# Altium footprint library transistors_other.PcbLib: 4 footprints
Each footprint in its own frame and in the unit in brackets; x right, y up, seen from the top. Pads: shape width x height; smd on the part's side, far side on the other; paste and mask are expansions set on the pad; w line width, h text height; cw(c..) or ccw(c..) is an arc to the next point about the centre after c.
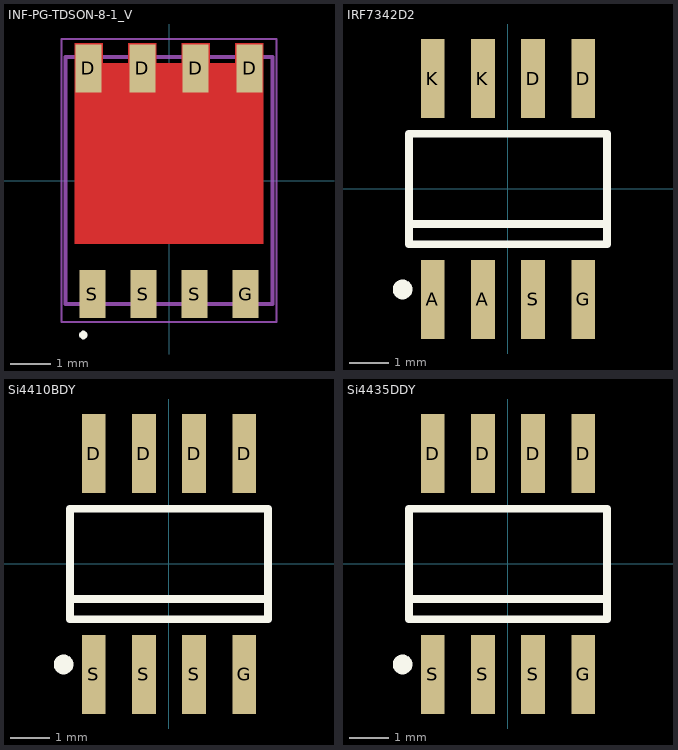
[diagram p0: the footprints below, top view; thin cyan lines are the x and y axes]

## INF-PG-TDSON-8-1_V [mm] "TDSON, 8-Leads, Body 6.15x5.15mm, Pitch 1.27mm"
height 1
pads (8):
  rect 0.65x1.2 smd: D(-2.007,2.794) D(-0.66,2.794) D(0.66,2.794) D(2.007,2.794) G(1.905,-2.825) S(-1.905,-2.825) S(-0.635,-2.825) S(0.635,-2.825)
Top Layer:
  region: -2.35,2.925 -2.35,-1.575 2.35,-1.575 2.35,2.925
  region: -2.35,2.925 -1.65,2.925 -1.65,3.425 -2.35,3.425
  region: 1.65,2.925 2.35,2.925 2.35,3.425 1.65,3.425
  region: -1.015,2.925 -0.315,2.925 -0.315,3.425 -1.015,3.425
  region: 0.315,2.925 1.015,2.925 1.015,3.425 0.315,3.425
Top Overlay:
  region: -2.234,-3.842 -2.234,-3.862 -2.218,-3.899 -2.19,-3.927 -2.153,-3.942 -2.134,-3.942 -2.114,-3.942 -2.077,-3.927 -2.049,-3.899 -2.034,-3.862 -2.034,-3.842 -2.034,-3.822 -2.049,-3.785 -2.077,-3.757 -2.114,-3.742 -2.134,-3.742 -2.153,-3.742 -2.19,-3.757 -2.218,-3.785 -2.234,-3.822
Top Paste:
  rectangle: 0.254,0.381 1.778,1.905
  rectangle: 0.254,-1.397 1.778,0.127
  rectangle: -1.778,-1.397 -0.254,0.127
  rectangle: -1.778,0.381 -0.254,1.905
Mechanical 13:
  lines w0.1: -2.575,-3.075 -2.575,3.075 2.575,3.075 2.575,-3.075 -2.575,-3.075
Mechanical 15:
  lines w0.05: -2.675,-3.525 -2.675,3.525 2.675,3.525 2.675,-3.525 -2.675,-3.525
  lines w0.1: -0.5,0 0.5,0 ; 0,-0.5 0,0.5
3D body "User Library-TDSON-8 (INFIN).step": height 1.1, standoff -0.01, extent -2.795,-3.167 2.795,3.183

## IRF7342D2 [mm] "Small Outline; 8 Leads; Body Width 3.7 mm; Pitch 1.27 mm"
height 1.65
pads (8):
  rect 0.6x2 smd: A(-1.905,-2.794) A(-0.635,-2.794) D(0.635,2.794) D(1.905,2.794) G(1.905,-2.794) K(-1.905,2.794) K(-0.635,2.794) S(0.635,-2.794)
Top Overlay:
  circle w0.25: c-2.665,-2.54 r0.125
  lines w0.2: -2.5,-0.881 2.5,-0.881 ; -2.5,-1.397 2.5,-1.397 2.5,1.397 -2.5,1.397 -2.5,-1.397
3D body "SW3dPS-SOIC08-150.step": height 1.75, standoff 0, extent -2.4,-2.9 2.4,2.9

## Si4410BDY [mm] "Small Outline; 8 Leads; Body Width 3.7 mm; Pitch 1.27 mm"
height 1.65
pads (8):
  rect 0.6x2 smd: D(-1.905,2.794) D(-0.635,2.794) D(0.635,2.794) D(1.905,2.794) G(1.905,-2.794) S(-1.905,-2.794) S(-0.635,-2.794) S(0.635,-2.794)
Top Overlay:
  circle w0.25: c-2.665,-2.54 r0.125
  lines w0.2: -2.5,-0.881 2.5,-0.881 ; -2.5,-1.397 2.5,-1.397 2.5,1.397 -2.5,1.397 -2.5,-1.397
3D body "SW3dPS-SOIC08-150.step": height 1.75, standoff 0, extent -2.4,-2.9 2.4,2.9

## Si4435DDY [mm] "Small Outline; 8 Leads; Body Width 3.7 mm; Pitch 1.27 mm"
height 1.65
pads (8):
  rect 0.6x2 smd: D(-1.905,2.794) D(-0.635,2.794) D(0.635,2.794) D(1.905,2.794) G(1.905,-2.794) S(-1.905,-2.794) S(-0.635,-2.794) S(0.635,-2.794)
Top Overlay:
  circle w0.25: c-2.665,-2.54 r0.125
  lines w0.2: -2.5,-0.881 2.5,-0.881 ; -2.5,-1.397 2.5,-1.397 2.5,1.397 -2.5,1.397 -2.5,-1.397
3D body "SW3dPS-SOIC08-150.step": height 1.75, standoff 0, extent -2.4,-2.9 2.4,2.9